# EAGLE library part SN74LS244N (library SCARA)
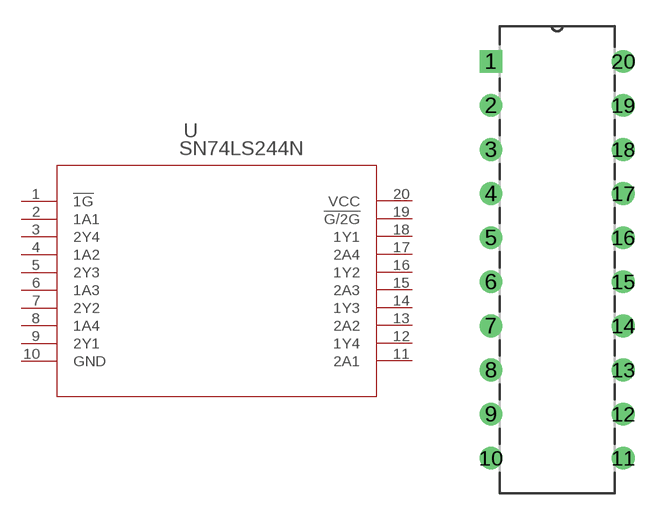
[diagram p6: symbol with the pads of N20; footprint N20]

Designator prefix U

## SN74LS244N (DATASHEET_URL: http://www.ti.com/lit/gpn/SN74LS244; DESCRIPTION: Octal Buffers And Line Drivers With 3-State Outputs; FAMILY_NAME: NON-INVERTING BUFFER/DRIVER; GENERIC_PART_NUMBER: SN74LS244; INDUSTRY_STD_PKG_TYPE: PDIP; MANUFACTURER: Texas Instruments; PACKAGE_DESIGNATOR: N; PIN_COUNT: 20)  [N20]
1  !1G  in
2  1A1  in
3  2Y4  out
4  1A2  in
5  2Y3  out
6  1A3  in
7  2Y2  out
8  1A4  in
9  2Y1  out
10  GND  pwr
11  2A1  in
12  1Y4  out
13  2A2  in
14  1Y3  out
15  2A3  in
16  1Y2  out
17  2A4  in
18  1Y1  out
19  !G/2G  in
20  VCC  pwr

## Footprint N20 (pad centres in mm)
drill 0.8 pad 1.295 square: 1 -7.62,22.86
drill 0.8 pad 1.295: 2 -7.62,20.32; 3 -7.62,17.78; 4 -7.62,15.24; 5 -7.62,12.7; 6 -7.62,10.16; 7 -7.62,7.62; 8 -7.62,5.08; 9 -7.62,2.54; 10 -7.62,0; 11 0,0; 12 0,2.54; 13 0,5.08; 14 0,7.62; 15 0,10.16; 16 0,12.7; 17 0,15.24; 18 0,17.78; 19 0,20.32; 20 0,22.86